# EAGLE library part 750811146 (library Wurth Electronics Midcom Inc V1-0)
Package Style: Non Standard EE20/10/6 13.3W THT Mounting: THT Pins: 10 pins Bobbin: 070-5248 Windings Primary: 88 - 269VAC, 130kHz Aux: Secondary: Best pinouts for production vary per application. Please contact Wurth Electronics Midcom, Inc. for assistance with your custom design. Datasheet: 750811146 <http://www.we-online.com/web/en/index.php/show/media/passive_components_-_custom_magnetics/pdf_doc_files/spec_sheets/7508/750811146.pdf> Website: Wurth Electronics Midcom <http://www.we-online.com/midcom> Contact us Wurth Electronics Midcom, Inc. 121 Airport Dr. Watertown, SD 57201 Phone: (605) 886-4385 Fax: (605) 886-4486 E-Mail: midcom@we-online.com
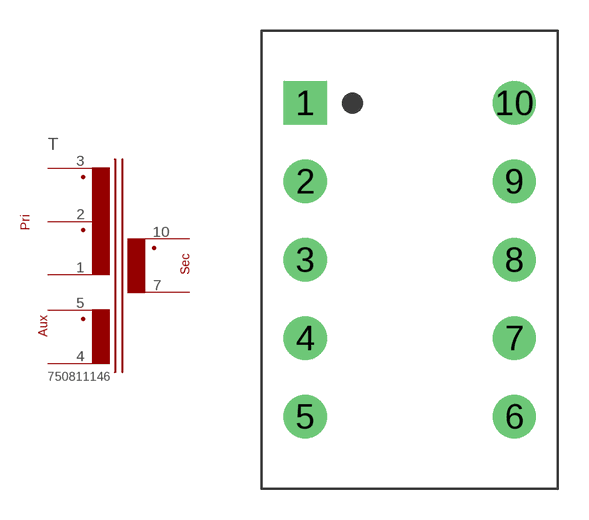
[diagram p80: symbol with the pads of 99NONSTANDARD_EE20/10/6_THT_10PIN; footprint 99NONSTANDARD_EE20/10/6_THT_10PIN]

Designator prefix T

## 750811146  [99NONSTANDARD_EE20/10/6_THT_10PIN]
1  3  pas
2  2  pas
3  1  pas
4  5  pas
5  4  pas
7  8  pas
10  7  pas

## Footprint 99NONSTANDARD_EE20/10/6_THT_10PIN (pad centres in mm)
Package Style: Non Standard EE20/10/6 11.W THT Mounting: THT Pins: 10
drill 1.397 square: 1 -5.08,7.62
drill 1.397 round: 2 -5.08,3.81; 3 -5.08,0; 4 -5.08,-3.81; 5 -5.08,-7.62; 6 5.08,-7.62; 7 5.08,-3.81; 8 5.08,0; 9 5.08,3.81; 10 5.08,7.62